# EAGLE library part A4985SESTR-T (library Allegro_By_element14_Batch_1)
DMOS Microstepping Driver with Translator and Overcurrent Protection
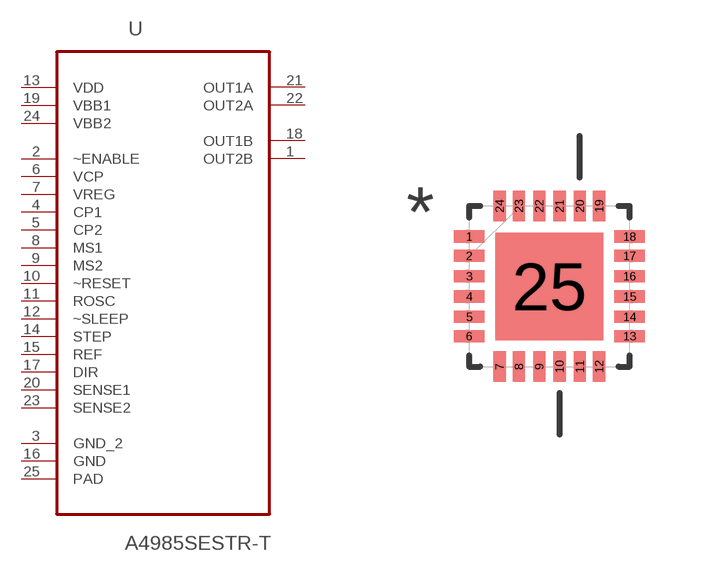
[diagram p12: symbol with the pads of QFN50P400X400X80-25N; footprint QFN50P400X400X80-25N]

Designator prefix U

## A4985SESTR-T (MPN: A4985SESTR-T; OC_FARNELL: -; OC_NEWARK: 67R9672; PACKAGE: QFN-24; SUPPLIER: Allegro)  [QFN50P400X400X80-25N]
1  OUT2B  out
2  ~ENABLE  in
3  GND_2  pas
4  CP1  pas
5  CP2  pas
6  VCP  pas
7  VREG  pas
8  MS1  in
9  MS2  in
10  ~RESET  in
11  ROSC  in
12  ~SLEEP  in
13  VDD  pwr
14  STEP  in
15  REF  in
16  GND  pas
17  DIR  in
18  OUT1B  out
19  VBB1  pwr
20  SENSE1  in
21  OUT1A  out
22  OUT2A  out
23  SENSE2  in
24  VBB2  pwr
25  PAD  pas

## Footprint QFN50P400X400X80-25N (pad centres in mm)
smd 0.762 x 0.305: 1 -2.007,1.245; 2 -2.007,0.762; 3 -2.007,0.254; 4 -2.007,-0.254; 5 -2.007,-0.762; 6 -2.007,-1.245; 13 2.007,-1.245; 14 2.007,-0.762; 15 2.007,-0.254; 16 2.007,0.254; 17 2.007,0.762; 18 2.007,1.245
smd 0.305 x 0.762: 7 -1.245,-2.007; 8 -0.762,-2.007; 9 -0.254,-2.007; 10 0.254,-2.007; 11 0.762,-2.007; 12 1.245,-2.007; 19 1.245,2.007; 20 0.762,2.007; 21 0.254,2.007; 22 -0.254,2.007; 23 -0.762,2.007; 24 -1.245,2.007
smd 2.692 x 2.692: 25 0,0